# EAGLE library part TPS2052B_DRB_8 (library ek-tm4c129exl)
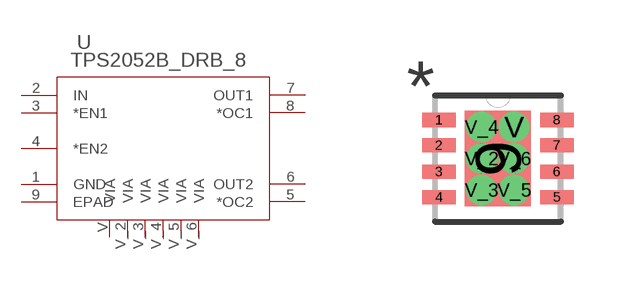
[diagram p9: symbol with the pads of DRB8_2P4X1P65; footprint DRB8_2P4X1P65]

Designator prefix U

## TPS2052B_DRB_8 (DATASHEETURL: http://www.ti.com/lit/gpn/TPS2052B; DESCRIPTION: Current-Limited, Power-Distribution Switches; FAMILY_NAME: USB POWER SWITCH; GENERIC_PART_NUMBER: TPS2052B; INDUSTRY_STD_PKG_TYPE: SON; MANUFACTURER: Texas Instruments; MANUFACTURER_PART_NUMBER: tps2052b_drb_8; PACKAGE_DESIGNATOR: DRB; PIN_COUNT: 8; VENDOR: Texas Instruments)  [DRB8_2P4X1P65]
1  GND  pwr
2  IN  in
3  *EN1  in
4  *EN2  in
5  *OC2  out
6  OUT2  out
7  OUT1  out
8  *OC1  out
9  EPAD  pas
V  VIA
V_2  VIA
V_3  VIA
V_4  VIA
V_5  VIA
V_6  VIA

## Footprint DRB8_2P4X1P65 (pad centres in mm)
smd 0.838 x 0.356: 1 -1.473,0.965; 2 -1.473,0.33; 3 -1.473,-0.33; 4 -1.473,-0.965; 5 1.473,-0.965; 6 1.473,-0.33; 7 1.473,0.33; 8 1.473,0.965
smd 1.651 x 2.388: 9 0,0
drill 0.254: V 0.406,0.787; V_2 -0.406,0; V_3 -0.406,-0.787; V_4 -0.406,0.787; V_5 0.406,-0.787; V_6 0.406,0